# Altium schematic symbol library 0.96_OLED_screen.SCHLIB: 7 symbols
Pins are listed as number, name and electrical type; pins without a type are passive.

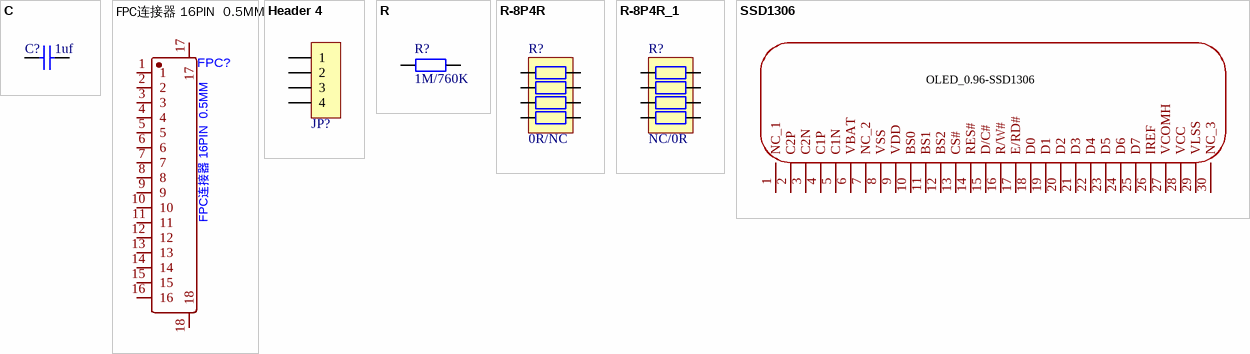
[diagram p0: symbols C to SSD1306]

## C
designator C?, comment 1uf
贴片电容/MLCC电容
footprint C0402_L (贴片MLCC电容)
pins: 1, 2

## FPC连接器 16PIN  0.5MM
designator FPC?
footprint FPC-SMD_FPC-0.5MM-16P
pins: 1, 2, 3, 4, 5, 6, 7, 8, 9, 10, 11, 12, 13, 14, 15, 16, 17, 18

## Header 4
designator JP?, comment HDR-1X4  (value not drawn)
4P接插件
footprint HDR2.54-LI-4P (排针，4脚)
pins: 1, 2, 3, 4

## R
designator R?, comment 1M/760K
贴片电阻
footprint R0402_L (1/16W贴片电阻)
pins: 1, 2

## R-8P4R
designator R?, comment 0R/NC
贴片4P排阻
footprint RCA-8P4R-0402 (2mm*1mm*0.45mm(长*宽*厚))
pins: 1, 2, 3, 4, 5, 6, 7, 8

## R-8P4R_1
designator R?, comment NC/0R
贴片4P排阻
footprint RCA-8P4R-0402 (2mm*1mm*0.45mm(长*宽*厚))
pins: 1, 2, 3, 4, 5, 6, 7, 8

## SSD1306
designator U?  (value not drawn)
footprint 1.3OLED-2
pins: 1 NC_1, 2 C2P, 3 C2N, 4 C1P, 5 C1N, 6 VBAT, 7 NC_2, 8 VSS, 9 VDD, 10 BS0, 11 BS1, 12 BS2, 13 CS#, 14 RES#, 15 D/C#, 16 R/W#, 17 E/RD#, 18 D0, 19 D1, 20 D2, 21 D3, 22 D4, 23 D5, 24 D6, 25 D7, 26 IREF, 27 VCOMH, 28 VCC, 29 VLSS, 30 NC_3
text: OLED_0.96-SSD1306